# EAGLE library part 61302821821 (library Wuerth_Elektronik_eiCan_Pin_&_Socked_Headers_v1.3)
WR-PHD 2.54mm Dual Socket Header, 28 Pins
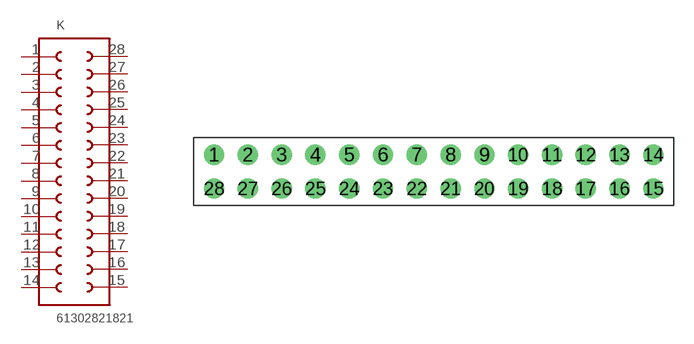
[diagram p138: symbol with the pads of 61302821821; footprint 61302821821]

Designator prefix K

## 61302821821  [61302821821]
1  1  pas
2  2  pas
3  3  pas
4  4  pas
5  5  pas
6  6  pas
7  7  pas
8  8  pas
9  9  pas
10  10  pas
11  11  pas
12  12  pas
13  13  pas
14  14  pas
15  15  pas
16  16  pas
17  17  pas
18  18  pas
19  19  pas
20  20  pas
21  21  pas
22  22  pas
23  23  pas
24  24  pas
25  25  pas
26  26  pas
27  27  pas
28  28  pas

## Footprint 61302821821 (pad centres in mm)
WR-PHD 2.54mm Dual Socket Header, 28 Pins
drill 1.02 round: 1 -16.51,1.27; 2 -13.97,1.27; 3 -11.43,1.27; 4 -8.89,1.27; 5 -6.35,1.27; 6 -3.81,1.27; 7 -1.27,1.27; 8 1.27,1.27; 9 3.81,1.27; 10 6.35,1.27; 11 8.89,1.27; 12 11.43,1.27; 13 13.97,1.27; 14 16.51,1.27; 15 16.51,-1.27; 16 13.97,-1.27; 17 11.43,-1.27; 18 8.89,-1.27; 19 6.35,-1.27; 20 3.81,-1.27; 21 1.27,-1.27; 22 -1.27,-1.27; 23 -3.81,-1.27; 24 -6.35,-1.27; 25 -8.89,-1.27; 26 -11.43,-1.27; 27 -13.97,-1.27; 28 -16.51,-1.27